# Altium footprint library CDRH4D22.PcbLib: 1 footprints
Each footprint in its own frame and in the unit in brackets; x right, y up, seen from the top. Pads: shape width x height; smd on the part's side, far side on the other; paste and mask are expansions set on the pad; w line width, h text height; cw(c..) or ccw(c..) is an arc to the next point about the centre after c.
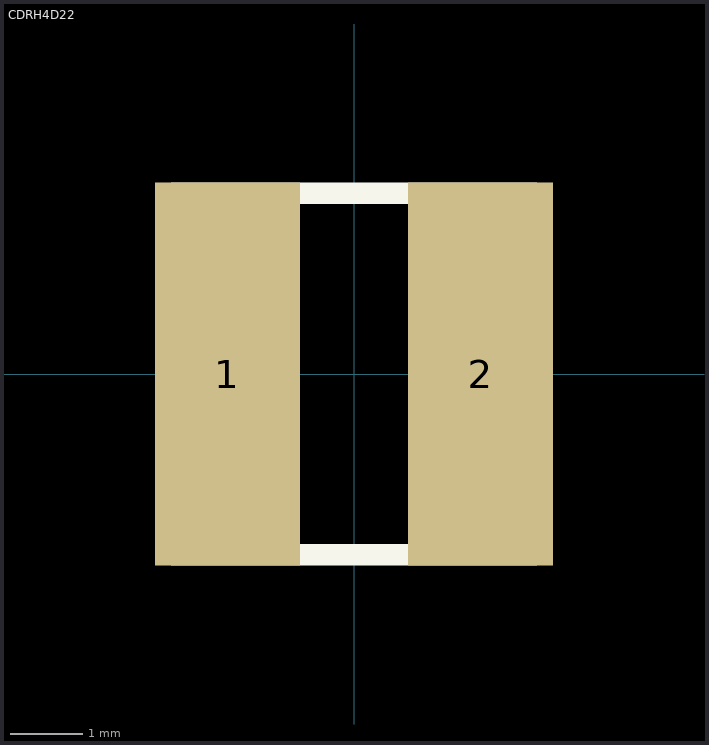
[diagram p0: the footprint, top view; thin cyan lines are the x and y axes]

## CDRH4D22 [mm]
pads (2):
  rect 2x5.3 smd: 1(-1.75,0) 2(1.75,0)
Top Overlay:
  lines w0.3: -2.5,-2.5 -2.5,2.5 2.5,2.5 2.5,-2.5 -2.5,-2.5
Mechanical 13:
  lines w0.254: -2.5,-2.5 -2.5,2.5 2.5,2.5 2.5,-2.5 -2.5,-2.5
  text ".Designator" at -1.524,-0.508 h2.5
3D body: height 2.4, standoff 0, extent -2.627,-2.627 2.627,2.627